# Altium footprint library Apollo.PcbLib: 47 footprints (part 2 of 3)
Each footprint in its own frame and in the unit in brackets; x right, y up, seen from the top. Pads: shape width x height; smd on the part's side, far side on the other; paste and mask are expansions set on the pad; w line width, h text height; cw(c..) or ccw(c..) is an arc to the next point about the centre after c.
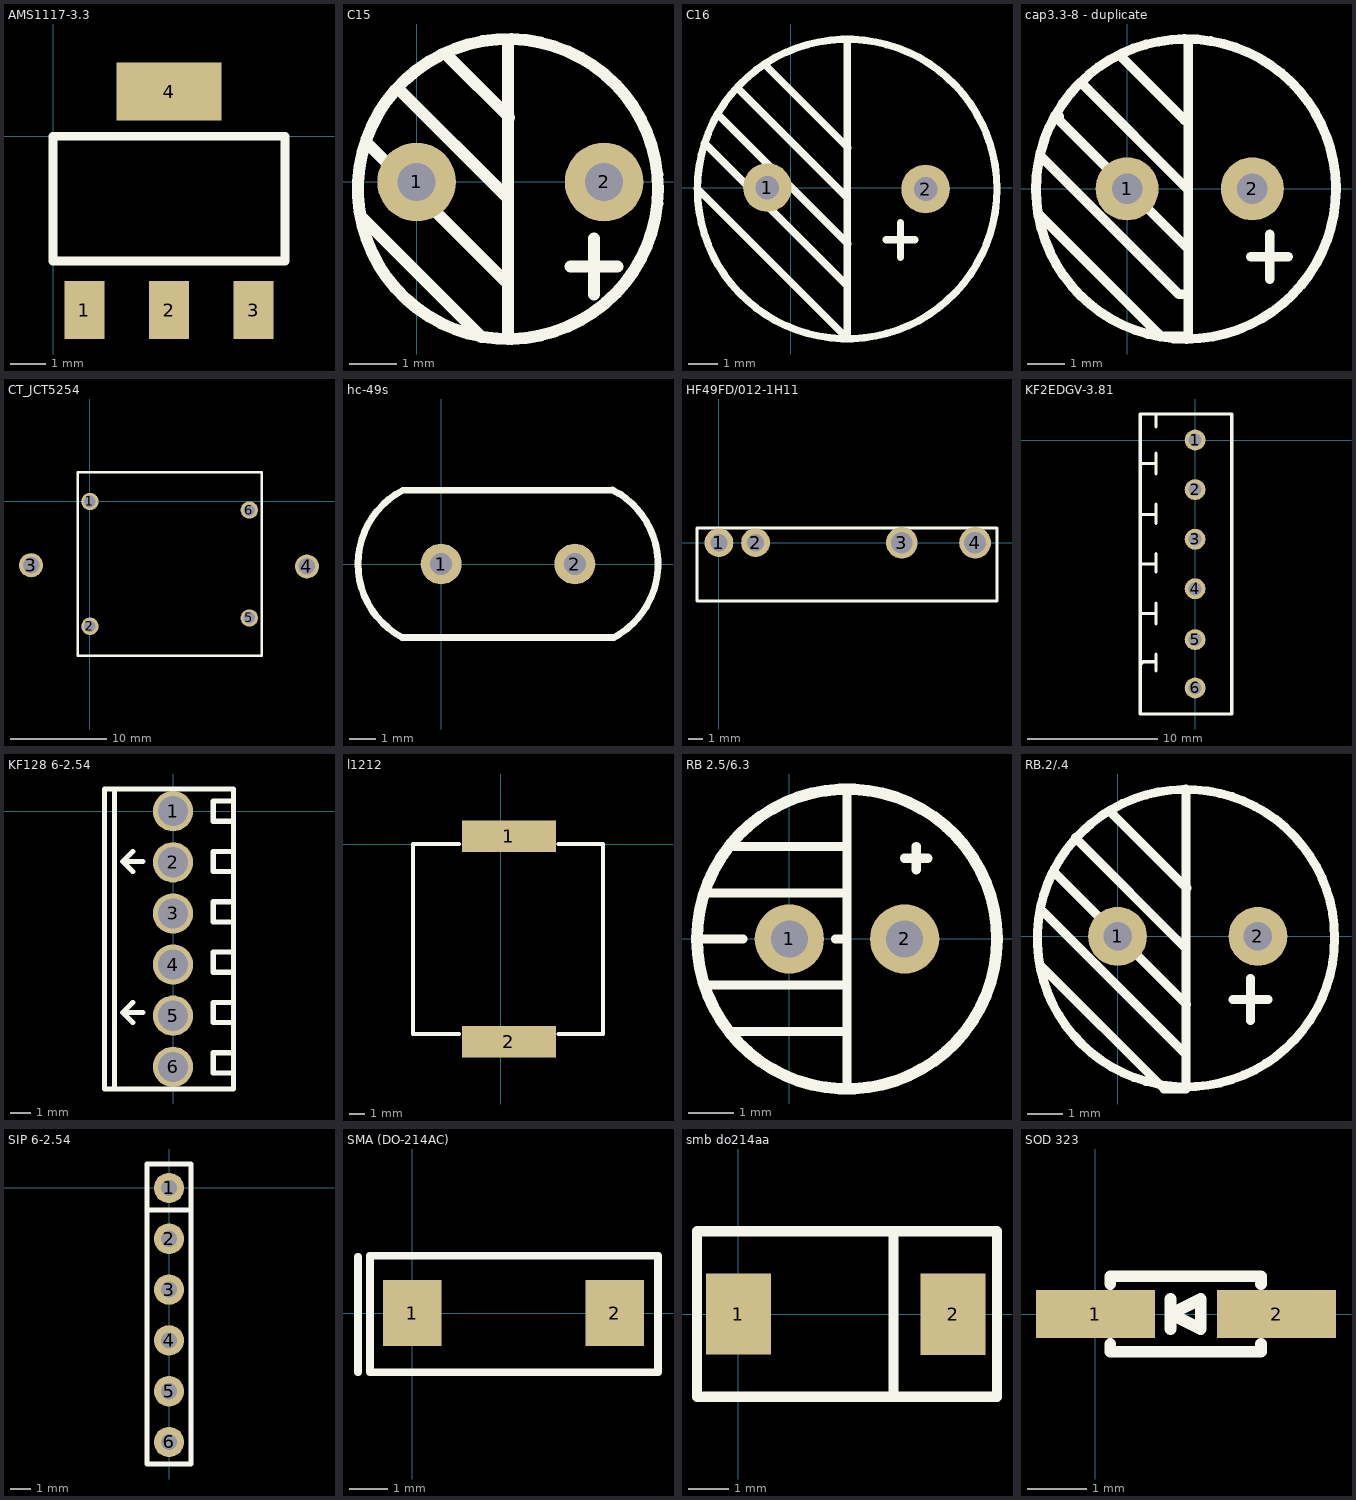
[diagram p1: the footprints below, top view; thin cyan lines are the x and y axes]

## AMS1117-3.3 [mm]
pads (4):
  rect 1.14x1.65 smd: 1(0.889,-4.953) 2(3.302,-4.953) 3(5.715,-4.953)
  rect 3x1.65 smd: 4(3.302,1.27)
Top Overlay:
  lines w0.254: 0,-3.556 6.604,-3.556 6.604,0 0,0 0,-3.556

## C15 [mil]
pads (2):
  round 66 hole 32: 1(0,0) 2(157.48,0)
Top Overlay:
  circle w10: c76.77,-5.91 r125.98
  lines w10: -45.72,-29.97 54.68,-130.36 ; -41.82,32.98 73.33,-82.18 ; -13.78,76.78 76.77,-13.77 ; 26.63,105.37 77.81,54.19 ; 76.77,-131.89 76.77,-13.77 ; 76.77,118.11 76.77,-13.77 ; 129.31,-71 168.69,-71 ; 149,-47.38 149,-94.62 149,-71 152.94,-71

## C16 [mil]
pads (2):
  round 66 hole 32: 1(-31.5,0) 2(183.07,-1.97)
Top Overlay:
  circle w10: c76.77,-1.97 r203.15
  lines w10: -126.97,-0.98 76.77,-204.72 76.77,-13.77 ; -115.6,59.6 76.33,-132.33 ; -97.93,98.93 77.27,-76.27 ; -69.88,132.88 76.77,-13.77 ; -33.41,165.41 77.81,54.19 ; 76.77,198.82 76.77,144.23 76.77,-13.77 ; 129.31,-71 168.69,-71 ; 149,-47.38 149,-94.62 149,-71 152.94,-71

## cap3.3-8 - duplicate [mil]
pads (2):
  round 66 hole 32: 1(0,0) 2(131.05,0)
Top Overlay:
  lines w10: -92,-27 35,-154 64,-154 64,-1 ; -89,33 54,-110 64,-110 ; -71,76 -71,72 64,-63 ; -47,111 -47,110 64,-1 ; -8,140 60,72 64,72 ; 65,156 64,155 64,-1 ; 129.31,-71 168.69,-71 ; 149,-47.38 149,-94.62 149,-71 152.94,-71 ; 218.47,1.94 ccw(c61.64,-0.14) 218.49,-0.14

## CT_JCT5254 [mm]
pads (6):
  round 1.8 hole 1.2: 1(0,0) 2(0,-12.929) 5(16.51,-12.065) 6(16.51,-0.889)
  round 2.5 hole 1.7: 3(-6.096,-6.604) 4(22.479,-6.731)
Top Overlay:
  lines w0.254: 6.477,3.048 17.78,3.048 ; 17.78,3.048 8.255,3.048 -1.27,3.048 -1.27,-16.002 6.604,-16.002 17.78,-16.002 17.78,3.048

## hc-49s [mil]
pads (2):
  round 60 hole 32: 1(0,0) 2(196.85,0)
Top Overlay:
  lines w10: 264.66,102.36 266.47,100.55 ; -57.34,-108.03 cw(c0,0) -56.42,108.51 251.71,108.51 252.24,109.04 cw(c196.85,0) 253.15,-108.57 252.6,-108.03 -57.34,-108.03

## HF49FD/012-1H11 [mm]
height 2.65
pads (4):
  round 2 hole 1.2: 1(0,0) 2(2.54,0)
  round 2.2 hole 1.5: 3(12.7,0) 4(17.78,0)
Top Overlay:
  lines w0.2: -1.524,-4.064 -1.524,1.016 19.304,1.016 19.304,-4.064 -1.524,-4.064

## KF2EDGV-3.81 [mm]
pads (6):
  round 1.6 hole 1: 1(0,0) 2(0,-3.8) 3(0,-7.6) 4(0,-11.4) 5(0,-15.3) 6(0,-19)
Top Overlay:
  lines w0.254: -4.2,-17.1 -4.1,-17.1 -4,-17 -3,-17 ; -4.2,-13.4 -4.1,-13.3 -3,-13.3 ; -4.2,-5.8 -4.1,-5.7 -3,-5.7 ; -4.2,-1.8 -3.1,-1.8 ; -4.1,-9.5 -3,-9.5 ; -3,-17.7 -3,-16.4 ; -3,-14.1 -3,-12.5 ; -3,-10.1 -3,-8.7 ; -3,-6.4 -3,-4.9 ; -3,-2.6 -3,-1 ; -3,1 -3,1.9 ; 0,-21 2.8,-21 2.8,2 0,2 -4.2,2 -4.2,-21 0.1,-21

## KF128 6-2.54 [mm]
pads (6):
  round 2 hole 1.5: 1(0,0) 2(0,-2.54) 3(0,-5.08) 4(0,-7.62) 5(0,-10.16) 6(0,-12.7)
Top Overlay:
  lines w0.254: -3.4,-0.4 -3.4,1.1 0.8,1.1 ; -3.4,0 -3.4,-13.8 0.1,-13.8 ; -2.9,-13.8 -2.9,1.1 ; -2,-10.5 -2.5,-10 ; -2,-3 -2.5,-2.5 ; -1.5,-10 -2.5,-10 ; -1.5,-2.5 -2.4,-2.5 -2.5,-2.5 ; 0,-13.8 3,-13.8 3,0 ; 0,1.1 3,1.1 3,-0.1 ; 2.9,0.5 2.1,0.5 2,0.5 2,-0.5 3,-0.5 ; 3,-13 2,-13 2,-12 3,-12 ; 3,-10.5 2,-10.5 2,-9.5 3,-9.5 ; 3,-8 2,-8 2,-7 3,-7 ; 3,-5.5 2,-5.5 2,-4.5 3,-4.5 ; 3,-3 2,-3 2,-2 3,-2 ; -2.5,-10 -2,-9.5 -2.5,-10 ; -2.5,-2.5 -2,-2 -2.5,-2.5

## l1212 [mm]
pads (2):
  rect 6x2 smd: 1(0.508,0.508) 2(0.508,-12.608)
Top Overlay:
  lines w0.254: -2.667,-12.1 -5.6,-12.1 -5.6,0 -2.667,0 ; 3.683,-12.1 6.5,-12.1 6.5,0 3.683,0

## RB 2.5/6.3 [mil]
height 104.33
pads (2):
  round 60 hole 32: 1(0,0) 2(100,0)
Top Overlay:
  circle w10: c50,0 r130
  lines w7.87: -80,0 -40,0 ; -70,-40 50,-40 ; -70,40 50,40 ; -50,-80 50,-80 ; -50,80 50,80 ; 40,0 50,0 ; 50,-130 50,130 ; 100,70 120,70 ; 110,60 110,80

## RB.2/.4 [mil]
pads (2):
  round 66 hole 32: 1(0,0) 2(157.48,0)
Top Overlay:
  circle w10: c76.77,-1.97 r166.85
  lines w10: -85.09,-33.91 52.26,-171.26 76.77,-171.26 76.77,-13.77 ; -84.1,28.1 76.33,-132.33 ; -71,76 -71,72 77.27,-76.27 ; -47,111 -47,110 76.77,-13.77 ; -8,140 77.81,54.19 ; 76.77,165.35 76.77,144.23 76.77,-13.77 ; 129.31,-71 168.69,-71 ; 149,-47.38 149,-94.62 149,-71 152.94,-71

## SIP 6-2.54 [mil]
pads (6):
  round 60 hole 32: 1(0,0) 2(0,-100) 3(0,-200) 4(0,-300) 5(0,-400) 6(0,-500)
Top Overlay:
  lines w10: -43.31,-43.31 43.31,-43.31 ; 0,-543.31 -43.31,-543.31 ; -43.31,-543.31 43.31,-543.31 43.31,47.24 0,47.24 -43.31,47.24 -43.31,-543.31

## SMA (DO-214AC) [mm]
pads (2):
  rect 1.5x1.7 smd: 1(0,0) 2(5.213,0)
Top Overlay:
  lines w0.2: -1.397,-1.524 -1.397,1.448 ; -1.089,-1.524 -1.089,-0.054 -1.089,1.473 6.327,1.473 6.327,-1.524 -1.089,-1.524

## smb do214aa [mm]
pads (2):
  rect 1.6x2 smd: 1(0,0) 2(5.273,-0.003)
Top Overlay:
  lines w0.254: 3.81,-2.032 3.81,2.032 ; -1.016,-2.032 -1.016,0 -1.016,2.032 6.35,2.032 6.35,0 6.35,-2.032 -1.016,-2.032

## SOD 323 [mm]
height 2.65
pads (2):
  rect 2x0.8 smd: 1(0,0) 2(3.05,0)
Top Overlay:
  lines w0.2: 0.25,-0.508 0.25,-0.635 2.79,-0.635 2.79,-0.508 ; 0.25,0.508 0.25,0.635 ; 1.266,-0.254 1.266,0.254 ; 1.52,0.635 0.25,0.635 ; 2.79,0.508 2.79,0.635 0.25,0.635 ; 1.266,0 1.774,-0.254 1.774,0.254 1.266,0